# Altium footprint library WE-HIDA.PcbLib: 14 footprints
Each footprint in its own frame and in the unit in brackets; x right, y up, seen from the top. Pads: shape width x height; smd on the part's side, far side on the other; paste and mask are expansions set on the pad; w line width, h text height; cw(c..) or ccw(c..) is an arc to the next point about the centre after c.
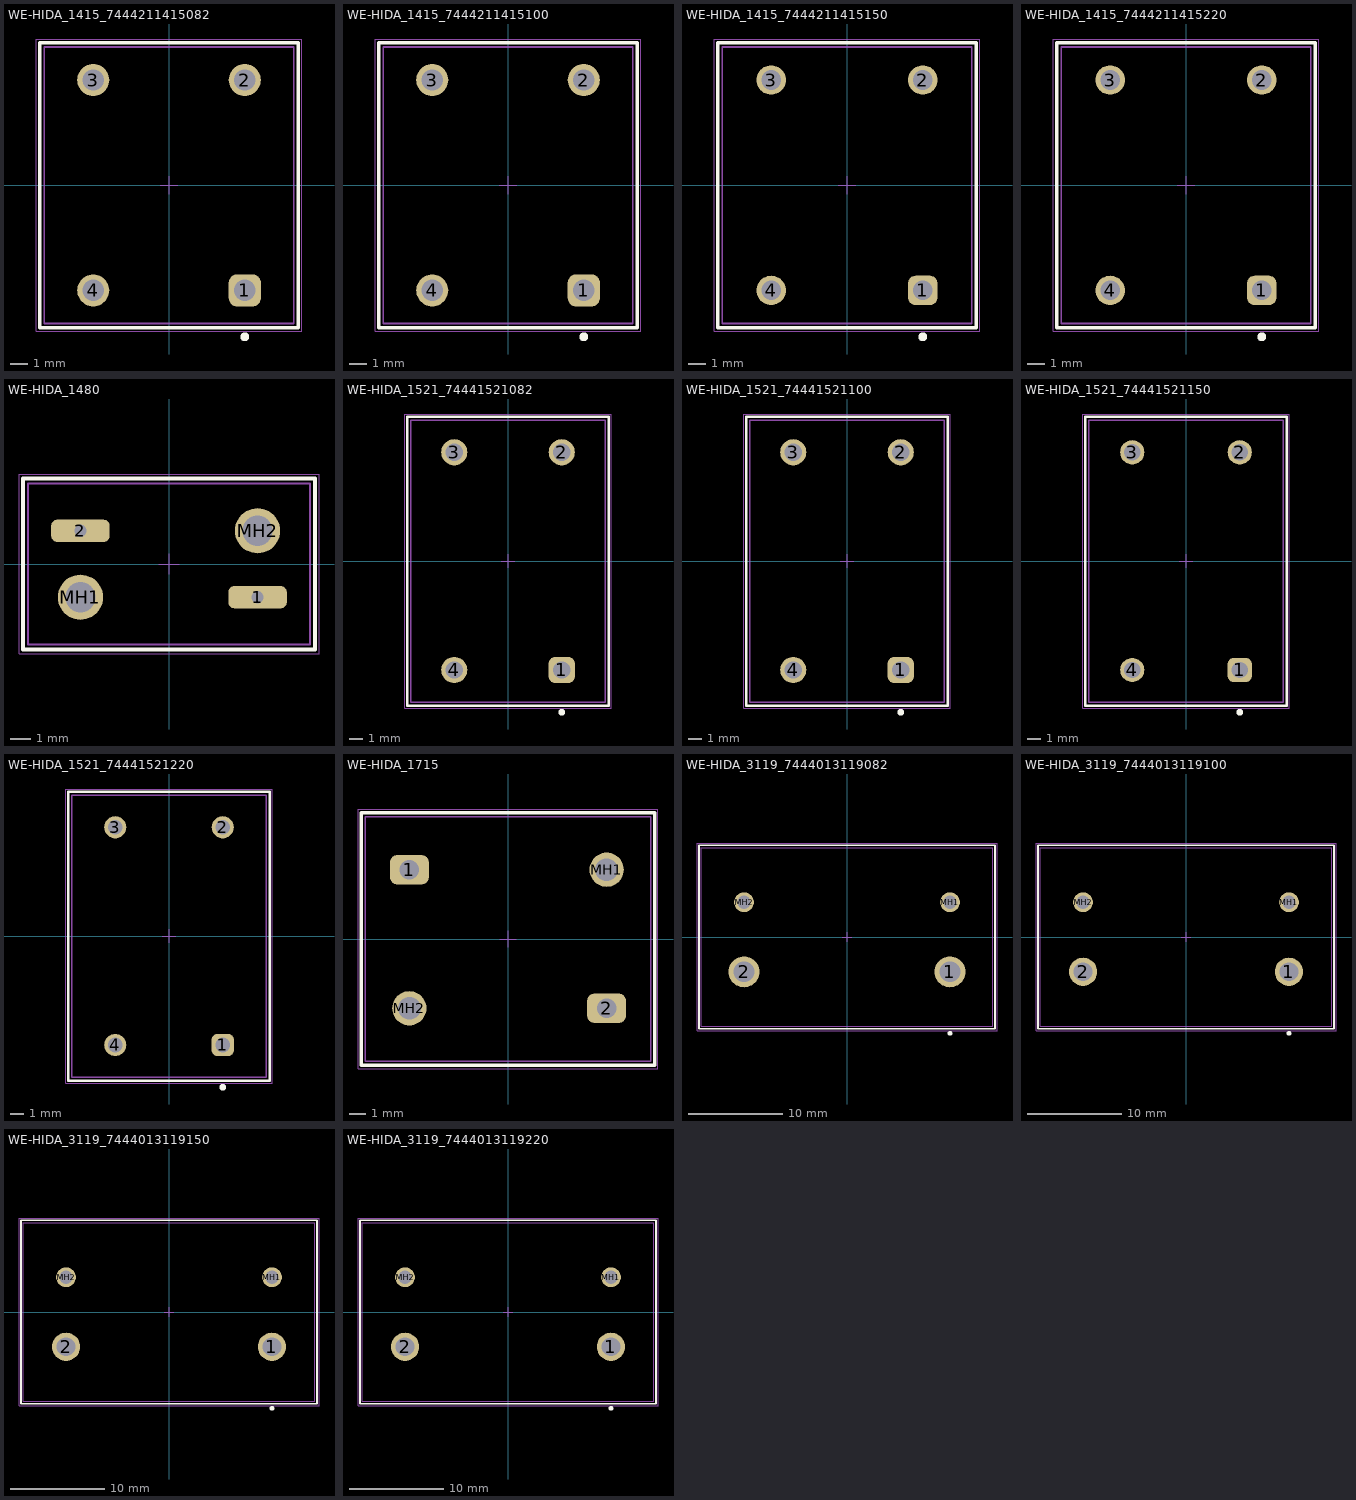
[diagram p0: the footprints below, top view; thin cyan lines are the x and y axes]

## WE-HIDA_1415_7444211415082 [mm] "THT High Current Inductor, body 14x15.5mm"
height 16
pads (4):
  rrect50% 1.8x1.8 hole 1.2: 1(4.25,-5.9)
  round 1.8 hole 1.2: 2(4.25,5.9) 3(-4.25,5.9) 4(-4.25,-5.9)
Top Overlay:
  circle w0.25: c4.25,-8.5 r0.125
  lines w0.2: -7.25,-8 -7.25,8 7.25,8 7.25,-8 -7.25,-8
Top Designator:
  text ".Designator" at -7.498,-0.5 h1.5
Top Component Outline:
  lines w0.1: -7,-7.75 -7,7.75 7,7.75 7,-7.75 -7,-7.75
Top 3D Body:
  lines w0.1: -7,-7.75 7,-7.75 7,7.75 -7,7.75 -7,-7.75
Top Courtyard:
  lines w0.05: -0.5,0 0.5,0 ; 0,-0.5 0,0.5 ; -7.45,-8.2 -7.45,8.2 7.45,8.2 7.45,-8.2 -7.45,-8.2
3D body "7444xx1415xxx_8_10.stp": height 16.05, standoff -4.95, extent -7,-7.75 7,7.85

## WE-HIDA_1415_7444211415100 [mm] "THT High Current Inductor, body 14x15.5mm"
height 16
pads (4):
  rrect50% 1.8x1.8 hole 1.2: 1(4.25,-5.9)
  round 1.8 hole 1.2: 2(4.25,5.9) 3(-4.25,5.9) 4(-4.25,-5.9)
Top Overlay:
  circle w0.25: c4.25,-8.5 r0.125
  lines w0.2: -7.25,-8 -7.25,8 7.25,8 7.25,-8 -7.25,-8
Top Designator:
  text ".Designator" at -7.498,-0.5 h1.5
Top Component Outline:
  lines w0.1: -7,-7.75 -7,7.75 7,7.75 7,-7.75 -7,-7.75
Top 3D Body:
  lines w0.1: -7,-7.75 7,-7.75 7,7.75 -7,7.75 -7,-7.75
Top Courtyard:
  lines w0.05: -0.5,0 0.5,0 ; 0,-0.5 0,0.5 ; -7.45,-8.2 -7.45,8.2 7.45,8.2 7.45,-8.2 -7.45,-8.2
3D body "7444xx1415xxx_8_10.stp": height 16.05, standoff -4.95, extent -7,-7.75 7,7.85

## WE-HIDA_1415_7444211415150 [mm] "THT High Current Inductor, body 14x15.5mm"
height 16
pads (4):
  rrect50% 1.65x1.65 hole 1.1: 1(4.25,-5.9)
  round 1.65 hole 1.1: 2(4.25,5.9) 3(-4.25,5.9) 4(-4.25,-5.9)
Top Overlay:
  circle w0.25: c4.25,-8.5 r0.125
  lines w0.2: -7.25,-8 -7.25,8 7.25,8 7.25,-8 -7.25,-8
Top Designator:
  text ".Designator" at -7.498,-0.5 h1.5
Top Component Outline:
  lines w0.1: -7,-7.75 -7,7.75 7,7.75 7,-7.75 -7,-7.75
Top 3D Body:
  lines w0.1: -7,-7.75 7,-7.75 7,7.75 -7,7.75 -7,-7.75
Top Courtyard:
  lines w0.05: -0.5,0 0.5,0 ; 0,-0.5 0,0.5 ; -7.45,-8.2 -7.45,8.2 7.45,8.2 7.45,-8.2 -7.45,-8.2
3D body "7444xx1415xxx_15_22.stp": height 16.05, standoff -4.95, extent -7,-7.75 7,7.85

## WE-HIDA_1415_7444211415220 [mm] "THT High Current Inductor, body 14x15.5mm"
height 16
pads (4):
  rrect50% 1.65x1.65 hole 1.1: 1(4.25,-5.9)
  round 1.65 hole 1.1: 2(4.25,5.9) 3(-4.25,5.9) 4(-4.25,-5.9)
Top Overlay:
  circle w0.25: c4.25,-8.5 r0.125
  lines w0.2: -7.25,-8 7.25,-8 7.25,8 -7.25,8 -7.25,-8
Top Designator:
  text ".Designator" at -7.498,-0.5 h1.5
Top Component Outline:
  lines w0.1: -7,-7.75 7,-7.75 7,7.75 -7,7.75 -7,-7.75
Top 3D Body:
  lines w0.1: -7,-7.75 -7,7.75 7,7.75 7,-7.75 -7,-7.75
Top Courtyard:
  lines w0.05: -0.5,0 0.5,0 ; 0,-0.5 0,0.5 ; -7.45,-8.2 7.45,-8.2 7.45,8.2 -7.45,8.2 -7.45,-8.2
3D body "7444xx1415xxx_15_22.stp": height 16.05, standoff -4.95, extent -7,-7.75 7,7.85

## WE-HIDA_1480 [mm] "THT High Current Inductor, body 14x8mm"
height 16
pads (4):
  rrect50% 2.9x1.1 hole 0.6 square: 1(4.4,-1.65) 2(-4.4,1.65)
  round 2.25 hole 1.5: MH1(-4.4,-1.65) MH2(4.4,1.65)
Top Overlay:
  lines w0.2: -7.25,-4.25 7.25,-4.25 7.25,4.25 -7.25,4.25 -7.25,-4.25
Top Designator:
  text ".Designator" at -7.498,-0.5 h1.5
Top Component Outline:
  lines w0.1: -7,-4 7,-4 7,4 -7,4 -7,-4
Top 3D Body:
  lines w0.1: -7,-4 -7,4 7,4 7,-4 -7,-4
Top Courtyard:
  lines w0.05: -0.5,0 0.5,0 ; 0,-0.5 0,0.5 ; -7.45,-4.45 7.45,-4.45 7.45,4.45 -7.45,4.45 -7.45,-4.45
3D body "7444xx1480xxx_4Pins.stp": height 16.05, standoff -4.95, extent -7,-4 7,4

## WE-HIDA_1521_74441521082 [mm] "THT High Current Inductor, body 14.5x21mm"
height 15.2
pads (4):
  rrect50% 1.95x1.95 hole 1.3: 1(4,-8.1)
  round 1.95 hole 1.3: 2(4,8.1) 3(-4,8.1) 4(-4,-8.1)
Top Overlay:
  circle w0.25: c4,-11.25 r0.125
  lines w0.2: -7.5,-10.75 -7.5,10.75 7.5,10.75 7.5,-10.75 -7.5,-10.75
Top Designator:
  text ".Designator" at -7.498,-0.5 h1.5
Top Component Outline:
  lines w0.1: -7.25,-10.5 -7.25,10.5 7.25,10.5 7.25,-10.5 -7.25,-10.5
Top 3D Body:
  lines w0.1: -7.25,-10.5 7.25,-10.5 7.25,10.5 -7.25,10.5 -7.25,-10.5
Top Courtyard:
  lines w0.05: -0.5,0 0.5,0 ; 0,-0.5 0,0.5 ; -7.7,-10.95 -7.7,10.95 7.7,10.95 7.7,-10.95 -7.7,-10.95
3D body "74441521xxx.stp": height 15.25, standoff -4.45, extent -7.25,-10.5 7.25,10.5

## WE-HIDA_1521_74441521100 [mm] "THT High Current Inductor, body 14.5x21mm"
height 15.2
pads (4):
  rrect50% 1.95x1.95 hole 1.3: 1(4,-8.1)
  round 1.95 hole 1.3: 2(4,8.1) 3(-4,8.1) 4(-4,-8.1)
Top Overlay:
  circle w0.25: c4,-11.25 r0.125
  lines w0.2: -7.5,-10.75 7.5,-10.75 7.5,10.75 -7.5,10.75 -7.5,-10.75
Top Designator:
  text ".Designator" at -7.498,-0.5 h1.5
Top Component Outline:
  lines w0.1: -7.25,-10.5 7.25,-10.5 7.25,10.5 -7.25,10.5 -7.25,-10.5
Top 3D Body:
  lines w0.1: -7.25,-10.5 -7.25,10.5 7.25,10.5 7.25,-10.5 -7.25,-10.5
Top Courtyard:
  lines w0.05: -0.5,0 0.5,0 ; 0,-0.5 0,0.5 ; -7.7,-10.95 7.7,-10.95 7.7,10.95 -7.7,10.95 -7.7,-10.95
3D body "74441521xxx.stp": height 15.25, standoff -4.45, extent -7.25,-10.5 7.25,10.5

## WE-HIDA_1521_74441521150 [mm] "THT High Current Inductor, body 14.5x21mm"
height 15.2
pads (4):
  rrect50% 1.8x1.8 hole 1.2: 1(4,-8.1)
  round 1.8 hole 1.2: 2(4,8.1) 3(-4,8.1) 4(-4,-8.1)
Top Overlay:
  circle w0.25: c4,-11.25 r0.125
  lines w0.2: -7.5,-10.75 -7.5,10.75 7.5,10.75 7.5,-10.75 -7.5,-10.75
Top Designator:
  text ".Designator" at -7.498,-0.5 h1.5
Top Component Outline:
  lines w0.1: -7.25,-10.5 -7.25,10.5 7.25,10.5 7.25,-10.5 -7.25,-10.5
Top 3D Body:
  lines w0.1: -7.25,-10.5 7.25,-10.5 7.25,10.5 -7.25,10.5 -7.25,-10.5
Top Courtyard:
  lines w0.05: -0.5,0 0.5,0 ; 0,-0.5 0,0.5 ; -7.7,-10.95 -7.7,10.95 7.7,10.95 7.7,-10.95 -7.7,-10.95
3D body "74441521150.stp": height 15.25, standoff -4.45, extent -7.25,-10.5 7.25,10.5

## WE-HIDA_1521_74441521220 [mm] "THT High Current Inductor, body 14.5x21mm"
height 15.2
pads (4):
  rrect50% 1.65x1.65 hole 1.1: 1(4,-8.1)
  round 1.65 hole 1.1: 2(4,8.1) 3(-4,8.1) 4(-4,-8.1)
Top Overlay:
  circle w0.25: c4,-11.25 r0.125
  lines w0.2: -7.5,-10.75 -7.5,10.75 7.5,10.75 7.5,-10.75 -7.5,-10.75
Top Designator:
  text ".Designator" at -7.498,-0.5 h1.5
Top Component Outline:
  lines w0.1: -7.25,-10.5 -7.25,10.5 7.25,10.5 7.25,-10.5 -7.25,-10.5
Top 3D Body:
  lines w0.1: -7.25,-10.5 7.25,-10.5 7.25,10.5 -7.25,10.5 -7.25,-10.5
Top Courtyard:
  lines w0.05: -0.5,0 0.5,0 ; 0,-0.5 0,0.5 ; -7.7,-10.95 -7.7,10.95 7.7,10.95 7.7,-10.95 -7.7,-10.95
3D body "74441521220.stp": height 15.25, standoff -4.45, extent -7.25,-10.5 7.25,10.5

## WE-HIDA_1715 [mm] "THT High Current Inductor, body 17.5x15mm"
height 19.5
pads (4):
  rrect50% 2.4x1.8 hole 1.2 square: 1(-6.05,4.25) 2(6.05,-4.25)
  round 2.1 hole 1.4: MH1(6.05,4.25) MH2(-6.05,-4.25)
Top Overlay:
  lines w0.2: -9,-7.75 9,-7.75 9,7.75 -9,7.75 -9,-7.75
Top Designator:
  text ".Designator" at -7.498,-0.5 h1.5
Top Component Outline:
  lines w0.1: -8.75,-7.5 -8.75,7.5 8.75,7.5 8.75,-7.5 -8.75,-7.5
Top 3D Body:
  lines w0.1: -8.75,-7.5 8.75,-7.5 8.75,7.5 -8.75,7.5 -8.75,-7.5
Top Courtyard:
  lines w0.05: -0.5,0 0.5,0 ; 0,-0.5 0,0.5 ; -9.2,-7.95 9.2,-7.95 9.2,7.95 -9.2,7.95 -9.2,-7.95
3D body "7444xx1715xxx.stp": height 19.05, standoff -4.95, extent -8.75,-7.5 8.75,7.5

## WE-HIDA_3119_7444013119082 [mm] "THT High Current Inductor, body 31x19mm"
height 35
pads (4):
  round 3.3 hole 2.2: 1(10.95,-3.7) 2(-10.95,-3.7)
  round 2.1 hole 1.4: MH1(10.95,3.7) MH2(-10.95,3.7)
Top Overlay:
  circle w0.25: c10.95,-10.25 r0.125
  lines w0.2: -15.75,-9.75 -15.75,9.75 15.75,9.75 15.75,-9.75 -15.75,-9.75
Top Designator:
  text ".Designator" at -7.498,-0.5 h1.5
Top Component Outline:
  lines w0.1: -15.5,-9.5 -15.5,9.5 15.5,9.5 15.5,-9.5 -15.5,-9.5
Top 3D Body:
  lines w0.1: -15.5,-9.5 15.5,-9.5 15.5,9.5 -15.5,9.5 -15.5,-9.5
Top Courtyard:
  lines w0.05: -0.5,0 0.5,0 ; 0,-0.5 0,0.5 ; -15.95,-9.95 -15.95,9.95 15.95,9.95 15.95,-9.95 -15.95,-9.95
3D body "7444xx3119082.stp": height 31.55, standoff -4.95, extent -15.5,-9.5 15.5,9.5

## WE-HIDA_3119_7444013119100 [mm] "THT High Current Inductor, body 31x19mm"
height 35
pads (4):
  round 3 hole 2: 1(10.95,-3.7) 2(-10.95,-3.7)
  round 2.1 hole 1.4: MH1(10.95,3.7) MH2(-10.95,3.7)
Top Overlay:
  circle w0.25: c10.95,-10.25 r0.125
  lines w0.2: -15.75,-9.75 15.75,-9.75 15.75,9.75 -15.75,9.75 -15.75,-9.75
Top Designator:
  text ".Designator" at -7.498,-0.5 h1.5
Top Component Outline:
  lines w0.1: -15.5,-9.5 15.5,-9.5 15.5,9.5 -15.5,9.5 -15.5,-9.5
Top 3D Body:
  lines w0.1: -15.5,-9.5 -15.5,9.5 15.5,9.5 15.5,-9.5 -15.5,-9.5
Top Courtyard:
  lines w0.05: -0.5,0 0.5,0 ; 0,-0.5 0,0.5 ; -15.95,-9.95 15.95,-9.95 15.95,9.95 -15.95,9.95 -15.95,-9.95
3D body "7444xx3119xxx.stp": height 31.55, standoff -4.95, extent -15.5,-9.5 15.5,9.5

## WE-HIDA_3119_7444013119150 [mm] "THT High Current Inductor, body 31x19mm"
height 35
pads (4):
  round 3 hole 2: 1(10.95,-3.7) 2(-10.95,-3.7)
  round 2.1 hole 1.4: MH1(10.95,3.7) MH2(-10.95,3.7)
Top Overlay:
  circle w0.25: c10.95,-10.25 r0.125
  lines w0.2: -15.75,-9.75 -15.75,9.75 15.75,9.75 15.75,-9.75 -15.75,-9.75
Top Designator:
  text ".Designator" at -7.498,-0.5 h1.5
Top Component Outline:
  lines w0.1: -15.5,-9.5 -15.5,9.5 15.5,9.5 15.5,-9.5 -15.5,-9.5
Top 3D Body:
  lines w0.1: -15.5,-9.5 15.5,-9.5 15.5,9.5 -15.5,9.5 -15.5,-9.5
Top Courtyard:
  lines w0.05: -0.5,0 0.5,0 ; 0,-0.5 0,0.5 ; -15.95,-9.95 -15.95,9.95 15.95,9.95 15.95,-9.95 -15.95,-9.95
3D body "7444xx3119xxx.stp": height 31.55, standoff -4.95, extent -15.5,-9.5 15.5,9.5

## WE-HIDA_3119_7444013119220 [mm] "THT High Current Inductor, body 31x19mm"
height 35
pads (4):
  round 3 hole 2: 1(10.95,-3.7) 2(-10.95,-3.7)
  round 2.1 hole 1.4: MH1(10.95,3.7) MH2(-10.95,3.7)
Top Overlay:
  circle w0.25: c10.95,-10.25 r0.125
  lines w0.2: -15.75,-9.75 15.75,-9.75 15.75,9.75 -15.75,9.75 -15.75,-9.75
Top Designator:
  text ".Designator" at -7.498,-0.5 h1.5
Top Component Outline:
  lines w0.1: -15.5,-9.5 15.5,-9.5 15.5,9.5 -15.5,9.5 -15.5,-9.5
Top 3D Body:
  lines w0.1: -15.5,-9.5 -15.5,9.5 15.5,9.5 15.5,-9.5 -15.5,-9.5
Top Courtyard:
  lines w0.05: -0.5,0 0.5,0 ; 0,-0.5 0,0.5 ; -15.95,-9.95 15.95,-9.95 15.95,9.95 -15.95,9.95 -15.95,-9.95
3D body "7444xx3119xxx.stp": height 31.55, standoff -4.95, extent -15.5,-9.5 15.5,9.5